# EAGLE library part DS2450-4CHANL-AD-CONV (library CindysStuff)
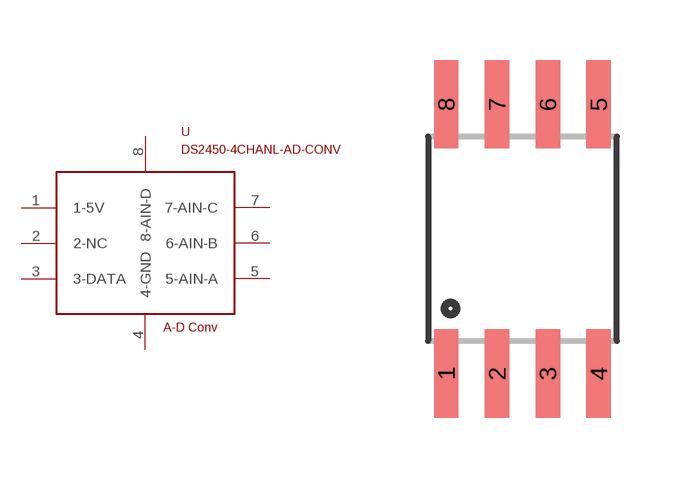
[diagram p3: symbol with the pads of SOIC-8-WIDE-300MIL; footprint SOIC-8-WIDE-300MIL]

Designator prefix -

## DS2450-4CHANL-AD-CONV  [SOIC-8-WIDE-300MIL]
1  1-5V
2  2-NC
3  3-DATA
4  4-GND
5  5-AIN-A
6  6-AIN-B
7  7-AIN-C
8  8-AIN-D

## Footprint SOIC-8-WIDE-300MIL (pad centres in mm)
smd 0.61 x 2.21: 1 -1.905,-3.378; 2 -0.635,-3.378; 3 0.635,-3.378; 4 1.905,-3.378; 5 1.905,3.353; 6 0.635,3.353; 7 -0.635,3.353; 8 -1.905,3.353